# Altium footprint library Footprint-Lib-ABahlmann-SMD.PcbLib: 105 footprints (part 4 of 7)
Each footprint in its own frame and in the unit in brackets; x right, y up, seen from the top. Pads: shape width x height; smd on the part's side, far side on the other; paste and mask are expansions set on the pad; w line width, h text height; cw(c..) or ccw(c..) is an arc to the next point about the centre after c.
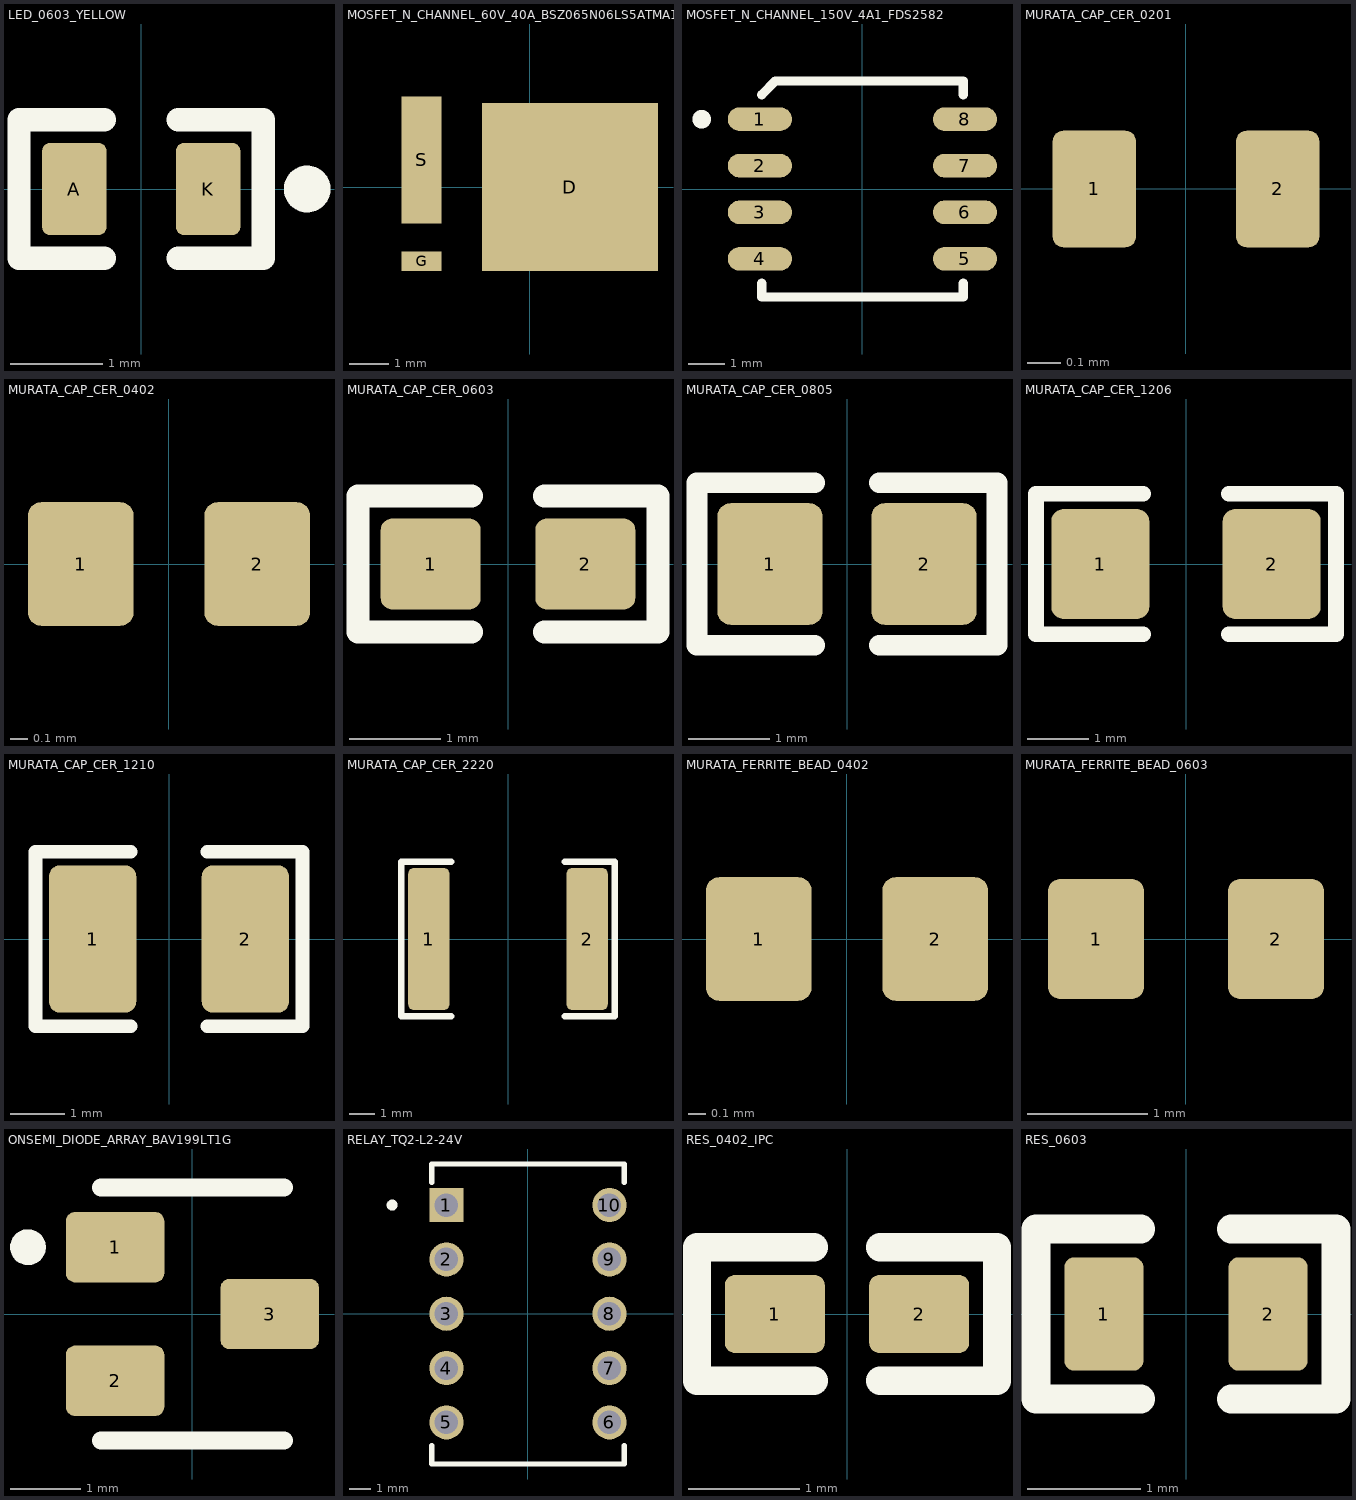
[diagram p3: the footprints below, top view; thin cyan lines are the x and y axes]

## LED_0603_YELLOW [mm]
pads (2):
  rrect25% 0.7x1 smd: A(-0.725,0) K(0.725,0)
Top Overlay:
  circle w0.254: c1.8,0 r0.127
  lines w0.254: -0.4,-0.75 -1.325,-0.75 -1.325,0.75 -0.4,0.75 ; 0.4,-0.75 1.325,-0.75 1.325,0.75 0.4,0.75
3D body "LED_0603_YELLOW.STEP": height 0.55, standoff 0.01, extent -0.8,-0.4 0.8,0.4

## MOSFET_N_CHANNEL_60V_40A_BSZ065N06LS5ATMA1 [mm] "N-Channel 60 V 40A (Tc) 46W (Tc) Surface Mount PG-TSDSON-8-FL"
pads (3):
  rect 4.515x4.31 smd mask+0.07: D(1.032,0)
  rect 1.035x0.5 smd mask+0.07: G(-2.775,-1.905)
  rect 1.035x3.26 smd mask+0.07: S(-2.775,0.7)
3D body "infineon-pg-tdson-8-17-3d-stp-package-en.stp": height 1.06, standoff 0, extent -3.075,-2.575 3.075,2.575

## MOSFET_N_CHANNEL_150V_4A1_FDS2582 [mm] "N-Channel 150 V 4.1A (Ta) 2.5W (Ta) Surface Mount 8-SOIC"
pads (8):
  oval 1.75x0.65 smd: 1(-2.8,1.905) 2(-2.8,0.635) 3(-2.8,-0.635) 4(-2.8,-1.905) 5(2.8,-1.905) 6(2.8,-0.635) 7(2.8,0.635) 8(2.8,1.905)
Top Overlay:
  circle w0.254: c-4.387,1.905 r0.127
  lines w0.254: -2.75,-2.575 -2.75,-2.95 2.75,-2.95 2.75,-2.575 ; -2.75,2.575 -2.375,2.95 2.75,2.95 2.75,2.575
3D body "AD620BRZ-RL.step": height 1.75, standoff 0, extent -3,-2.45 3,2.45

## MURATA_CAP_CER_0201 [mm]
pads (2):
  rrect25% 0.25x0.35 smd mask+0.05: 1(-0.275,0) 2(0.275,0)
3D body "GRM033R60J104KE19D.STEP": height 0.34, standoff 0.01, extent -0.3,-0.15 0.3,0.15

## MURATA_CAP_CER_0402 [mm]
pads (2):
  rrect25% 0.6x0.7 smd: 1(-0.5,0) 2(0.5,0)
3D body "GRM155R60J475ME47D.STEP": height 0.61, standoff 0.01, extent -0.5,-0.25 0.5,0.25

## MURATA_CAP_CER_0603 [mm]
pads (2):
  rrect25% 1.1x1 smd: 1(-0.85,0) 2(0.85,0)
Top Overlay:
  lines w0.254: -0.4,-0.75 -1.65,-0.75 -1.65,0.75 -0.4,0.75 ; 0.4,-0.75 1.65,-0.75 1.65,0.75 0.4,0.75
3D body "GRM188R60J476ME15D.STEP": height 1.01, standoff 0.01, extent -0.8,-0.4 0.8,0.4

## MURATA_CAP_CER_0805 [mm]
pads (2):
  rrect25% 1.3x1.5 smd: 1(-0.95,0) 2(0.95,0)
Top Overlay:
  lines w0.254: -0.4,-1 -1.85,-1 -1.85,1 -0.4,1 ; 0.4,-1 1.85,-1 1.85,1 0.4,1
3D body "GRM21BR60J107ME15L.STEP": height 1.46, standoff 0.01, extent -1,-0.625 1,0.625

## MURATA_CAP_CER_1206 [mm]
pads (2):
  rrect25% 1.6x1.8 smd: 1(-1.4,0) 2(1.4,0)
Top Overlay:
  lines w0.254: -0.7,-1.15 -2.45,-1.15 -2.45,1.15 -0.7,1.15 ; 0.7,-1.15 2.45,-1.15 2.45,1.15 0.7,1.15
3D body "CAPC3216X95N.step": height 0.96, standoff 0.01, extent -1.6,-0.8 1.6,0.8

## MURATA_CAP_CER_1210 [mm]
pads (2):
  rrect25% 1.6x2.7 smd: 1(-1.4,0) 2(1.4,0)
Top Overlay:
  lines w0.254: -0.7,-1.6 -2.45,-1.6 -2.45,1.6 -0.7,1.6 ; 0.7,-1.6 2.45,-1.6 2.45,1.6 0.7,1.6
3D body "GRM32EC81C476KE15K.STEP": height 2.71, standoff 0.01, extent -1.6,-1.25 1.6,1.25

## MURATA_CAP_CER_2220 [mm]
pads (2):
  rrect25% 1.6x5.5 smd: 1(-3.075,0) 2(3.075,0)
Top Overlay:
  lines w0.254: -2.2,-3 -4.15,-3 -4.15,3 -2.2,3 ; 2.2,-3 4.15,-3 4.15,3 2.2,3
3D body "GC355XD7LP105KX17L.STEP": height 2.71, standoff 0.01, extent -2.85,-2.5 2.85,2.5

## MURATA_FERRITE_BEAD_0402 [mm]
pads (2):
  rrect25% 0.6x0.7 smd: 1(-0.5,0) 2(0.5,0)
3D body "BLM15PD121SN1D.STEP": height 0.56, standoff 0.01, extent -0.5,-0.25 0.5,0.25

## MURATA_FERRITE_BEAD_0603 [mm]
pads (2):
  rrect25% 0.8x1 smd: 1(-0.75,0) 2(0.75,0)
3D body "BLM18AG121SN1D.STEP": height 0.96, standoff 0.01, extent -0.8,-0.4 0.8,0.4

## ONSEMI_DIODE_ARRAY_BAV199LT1G [mm] "Diode Array 1 Pair Series Connection 70 V 215mA (DC) Surface Mount TO-236-3, SC-59, SOT-23-3"
pads (3):
  rrect25% 1.4x1 smd: 1(-1.1,0.95) 2(-1.1,-0.95) 3(1.1,0)
Top Overlay:
  circle w0.254: c-2.34,0.95 r0.127
  lines w0.254: -1.3,-1.8 1.3,-1.8 ; -1.3,1.8 1.3,1.8
3D body "SOT23-3.stp": height 1.1, standoff 0, extent -1.25,-1.5 1.25,1.5

## RELAY_TQ2-L2-24V [mm] "Telecom Relay DPDT (2 Form C) Through Hole"
pads (10):
  rect 1.6x1.6 hole 1.1: 1(-3.81,5.08)
  round 1.6 hole 1.1: 2(-3.81,2.54) 3(-3.81,0) 4(-3.81,-2.54) 5(-3.81,-5.08) 6(3.81,-5.08) 7(3.81,-2.54) 8(3.81,0) 9(3.81,2.54) 10(3.81,5.08)
Top Overlay:
  circle w0.254: c-6.35,5.08 r0.127
  lines w0.254: -4.5,-6.175 -4.5,-7.025 4.5,-7.025 4.5,-6.175 ; -4.5,6.15 -4.5,7 4.5,7 4.5,6.15
3D body "TQ2-L2-24V.stp": height 5, standoff -3.5, extent -4.5,-7 4.5,7

## RES_0402_IPC [mm]
pads (2):
  rrect25% 0.9x0.7 smd: 1(-0.65,0) 2(0.65,0)
Top Overlay:
  lines w0.254: -0.3,-0.6 -1.35,-0.6 -1.35,0.6 -0.3,0.6 ; 0.3,-0.6 1.35,-0.6 1.35,0.6 0.3,0.6
3D body "RES_0402.step": height 0.36, standoff 0.01, extent -0.5,-0.25 0.5,0.25

## RES_0603 [mm] "Link for footprints (Non-IPC): https://www.circuithub.com/post/recommended-footprints-for-discrete-components"
pads (2):
  rrect25% 0.7x1 smd: 1(-0.725,0) 2(0.725,0)
Top Overlay:
  lines w0.254: -0.4,-0.75 -1.325,-0.75 -1.325,0.75 -0.4,0.75 ; 0.4,-0.75 1.325,-0.75 1.325,0.75 0.4,0.75
3D body "RES_0603.step": height 0.46, standoff 0.01, extent -0.8,-0.4 0.8,0.4